# EAGLE library part TSC428CPA (library TRANS_IRF3205SPBF)
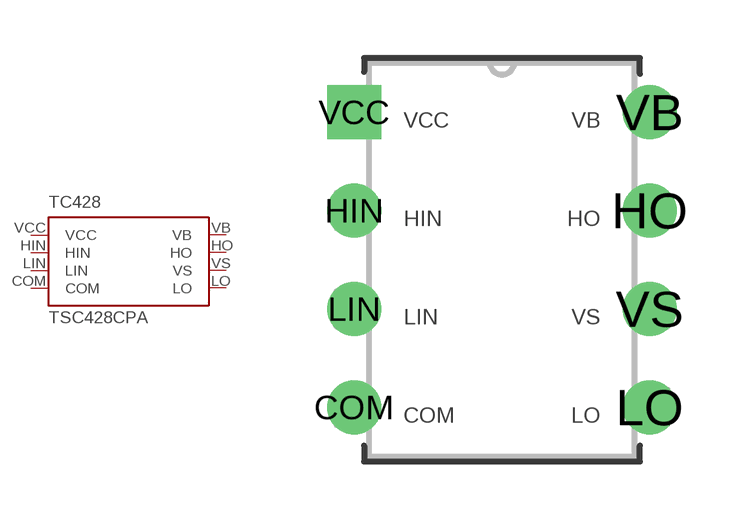
[diagram p0: symbol with the pads of PDIP-8_N; footprint PDIP-8_N]

Designator prefix TC428

## TSC428CPA  [PDIP-8_N]
COM  COM  in
HIN  HIN  in
HO  HO  out
LIN  LIN  in
LO  LO  pwr
VB  VB  out
VCC  VCC  in
VS  VS  pas

## Footprint PDIP-8_N (pad centres in mm)
drill 0.889 pad 1.397: COM -3.81,-3.81; HIN -3.81,1.27; HO 3.81,1.27; LIN -3.81,-1.27; LO 3.81,-3.81; VB 3.81,3.81; VS 3.81,-1.27
drill 0.889 pad 1.397 square: VCC -3.81,3.81